# Altium footprint library Basic.PcbLib: 16 footprints
Each footprint in its own frame and in the unit in brackets; x right, y up, seen from the top. Pads: shape width x height; smd on the part's side, far side on the other; paste and mask are expansions set on the pad; w line width, h text height; cw(c..) or ccw(c..) is an arc to the next point about the centre after c.
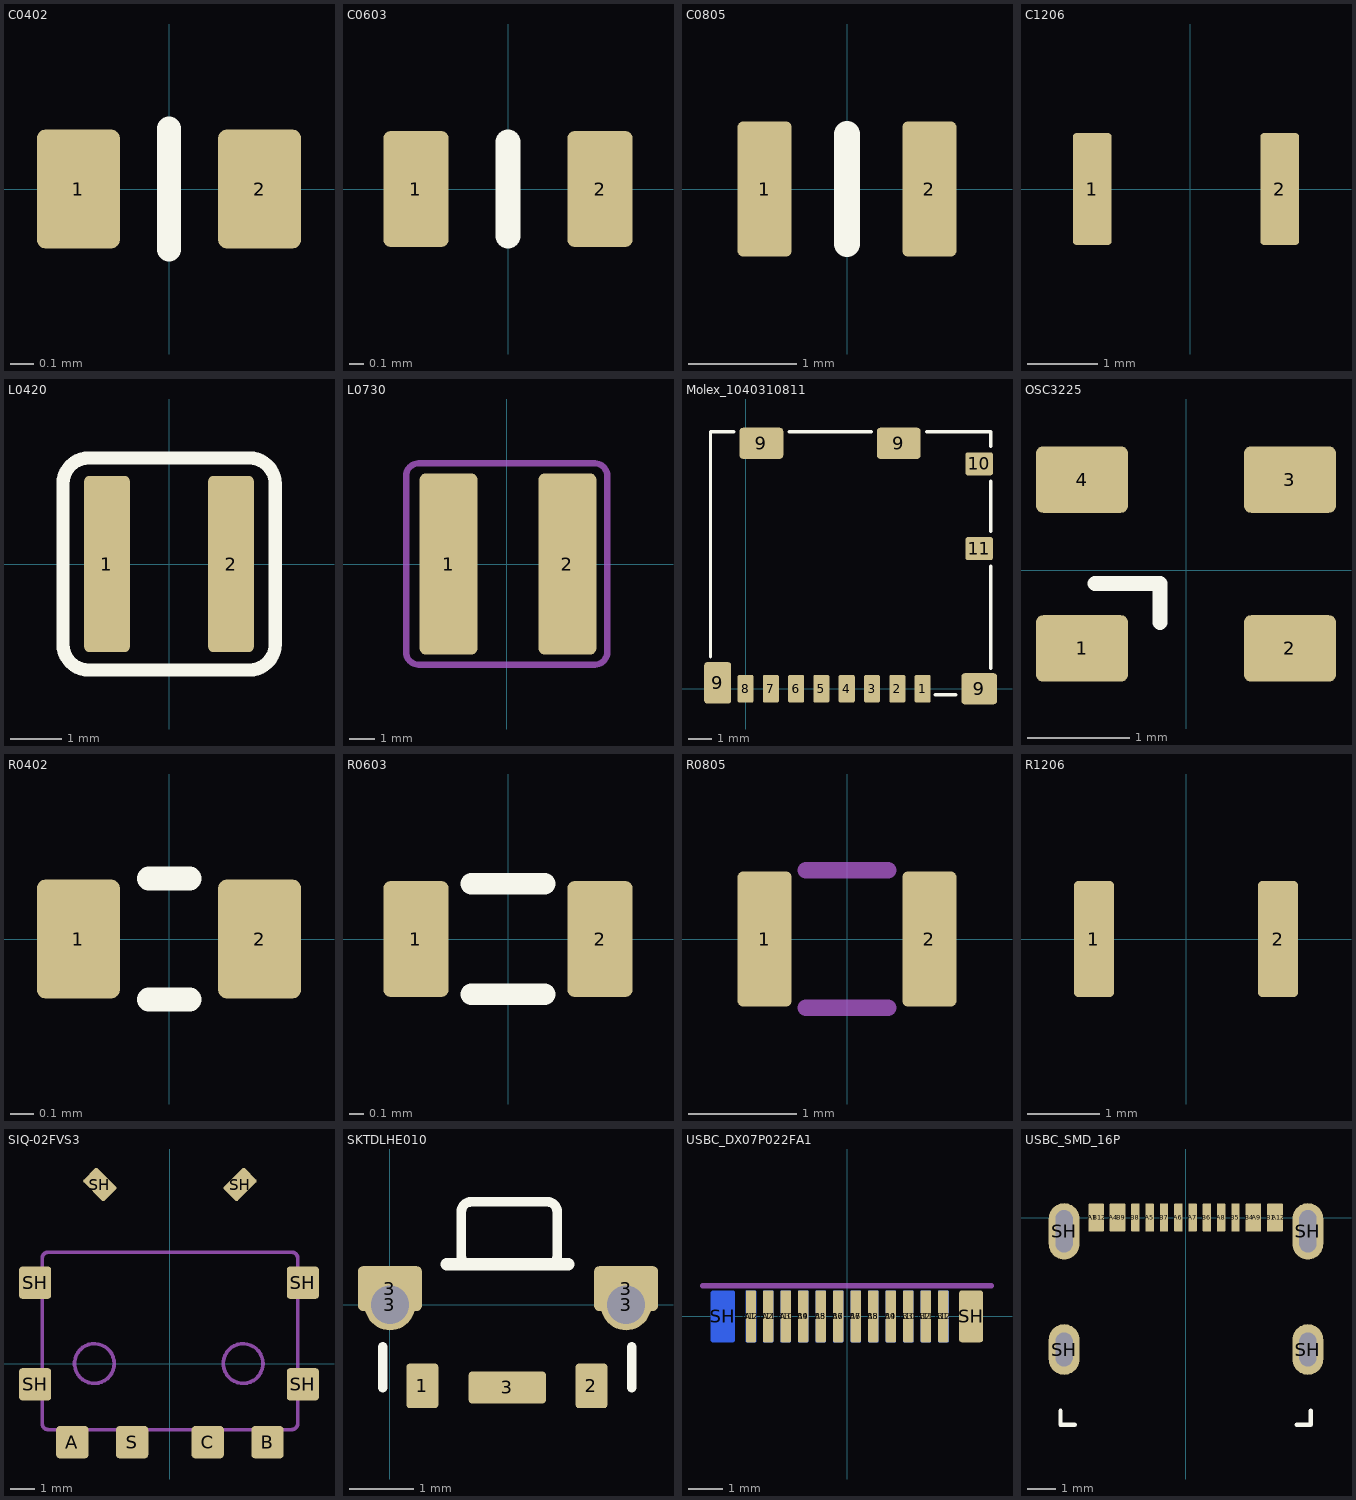
[diagram p0: the footprints below, top view; thin cyan lines are the x and y axes]

## C0402 [mm]
pads (2):
  rrect21% 0.35x0.5 smd paste-0.021 mask+0.05: 1(-0.381,0) 2(0.381,0)
Top Overlay:
  lines w0.1: 0,-0.254 0,0.254
3D body "Capacitor_0402_h20mil.STEP": height 0.52, standoff 0.01, extent -0.508,-0.254 0.508,0.254

## C0603 [mm]
pads (2):
  rrect21% 0.45x0.8 smd paste-0.021 mask+0.05: 1(-0.635,0) 2(0.635,0)
Top Overlay:
  lines w0.172: 0,-0.325 0,0.325
3D body "Capacitor_0603_h32mil.STEP": height 0.81, standoff 0.01, extent -0.8,-0.4 0.8,0.4

## C0805 [mm]
pads (2):
  rrect21% 0.5x1.25 smd paste-0.021 mask+0.05: 1(-0.762,0) 2(0.762,0)
Top Overlay:
  lines w0.245: 0,-0.508 0,0.508
3D body "Capacitor_0805_h50mil.STEP": height 1.26, standoff 0.01, extent -1,-0.625 1,0.625

## C1206 [mm]
pads (2):
  rrect21% 0.55x1.6 smd paste-0.021 mask+0.05: 1(-1.397,0) 2(1.27,0)
3D body "Capacitor_1206_h63mil.STEP": height 1.61, standoff 0.01, extent -1.666,-0.802 1.534,0.798

## L0420 [mm]
pads (2):
  rrect21% 0.88x3.4 smd: 1(-1.2,0) 2(1.196,0)
Top Overlay:
  lines w0.254: -2.05,-1.55 ccw(c-1.55,-1.55) -1.55,-2.05 1.55,-2.05 ccw(c1.55,-1.55) 2.05,-1.55 2.05,1.55 ccw(c1.55,1.55) 1.55,2.05 -1.55,2.05 ccw(c-1.55,1.55) -2.05,1.55 -2.05,-1.55
3D body "L_0420.stp": height 2, standoff -0.08, extent -2.15,-2.15 2.15,2.15

## L0730 [mm]
pads (2):
  rrect21% 2.3x7.2 smd: 1(-2.311,0) 2(2.413,0)
Mechanical 1:
  lines w0.254: -4,-3.5 ccw(c-3.5,-3.5) -3.5,-4 3.5,-4 ccw(c3.5,-3.5) 4,-3.5 4,3.5 ccw(c3.5,3.5) 3.5,4 -3.5,4 ccw(c-3.5,3.5) -4,3.5 -4,-3.5
3D body "L_0730.stp": height 2.75, standoff -0.16, extent -3.9,-3.9 3.9,3.9

## Molex_1040310811 [mm] "1.10mm Pitch microSD /  Memory Card Connector, Surface Mount, /  Push-Pull Type, 1.42mm Height, with Detect /  Switch"
pads (14):
  rrect21% 0.7x1.2 smd mask+0.05: 1(7.7,0) 2(6.6,0) 3(5.5,0) 4(4.4,0) 5(3.3,0) 6(2.2,0) 7(1.1,0) 8(0,0)
  rrect21% 1.17x1.8 smd mask+0.05: 9(-1.21,0.254)
  rrect21% 1.9x1.35 smd mask+0.05: 9(0.691,10.675) 9(6.661,10.675)
  rrect21% 1.55x1.35 smd mask+0.05: 9(10.16,0)
  rrect21% 1.2x1 smd mask+0.05: 10(10.16,9.779) 11(10.16,6.096)
Top Overlay:
  lines w0.15: -1.524,1.397 -1.524,11.176 -0.508,11.176 ; 1.905,11.176 5.461,11.176 ; 7.874,11.176 10.668,11.176 10.668,10.541 ; 8.255,-0.254 9.144,-0.254 ; 10.668,0.889 10.668,5.334 ; 10.668,6.858 10.668,9.017
3D body "Molex_1.10mm Pitch microSD.step": height 1.47, standoff 0, extent -1.403,-0.289 10.547,11.111

## OSC3225 [mm] "SMD-3225-4P"
height 1.2
pads (4):
  rrect21% 0.9x0.65 smd: 1(-1.016,-0.762) 2(1.016,-0.762) 3(1.016,0.889) 4(-1.016,0.889)
Top Overlay:
  lines w0.15: -0.889,-0.127 -0.254,-0.127 -0.254,-0.508
3D body "Crystal_Oscillator_3225.step": height 0.9, standoff 0, extent -1.6,-1.188 1.6,1.315

## R0402 [mm]
height 3
pads (2):
  rrect21% 0.35x0.5 smd paste-0.021 mask+0.05: 1(-0.381,0) 2(0.381,0)
Top Overlay:
  lines w0.1: -0.085,-0.254 0.087,-0.254 ; -0.085,0.254 0.087,0.254
3D body "RES0402.stp": height 0.3, standoff 0, extent -0.5,-0.25 0.5,0.25

## R0603 [mm]
pads (2):
  rrect21% 0.45x0.8 smd paste-0.021 mask+0.05: 1(-0.635,0) 2(0.635,0)
Top Overlay:
  lines w0.15: -0.254,-0.381 0.254,-0.381 ; -0.254,0.381 0.254,0.381
3D body "RES0603.stp": height 0.45, standoff 0, extent -0.8,-0.4 0.8,0.4

## R0805 [mm]
pads (2):
  rrect21% 0.5x1.25 smd paste-0.021 mask+0.05: 1(-0.762,0) 2(0.762,0)
Mechanical 1:
  lines w0.15: -0.381,-0.635 0.381,-0.635 ; -0.381,0.635 0.381,0.635
3D body "RES0805.stp": height 0.5, standoff 0, extent -1,-0.63 1,0.62

## R1206 [mm]
pads (2):
  rrect21% 0.55x1.6 smd paste-0.021 mask+0.05: 1(-1.27,0) 2(1.27,0)
3D body "RES1206.stp": height 0.55, standoff 0, extent -1.55,-0.772 1.55,0.78

## SIQ-02FVS3 [mm] "Encoder"
pads (10):
  rrect21% 1.3x1.3 smd: A(-3.937,-3.175) B(3.937,-3.175) C(1.524,-3.175) S(-1.524,-3.175) SH(-5.438,-0.839) SH(-5.438,3.261) SH(5.362,-0.839) SH(5.362,3.261)
  rrect21% 1.2x0.8 smd rot 135: SH(-2.829,7.22)
  rrect21% 1.2x0.8 smd rot 45: SH(2.829,7.22)
Mechanical 1:
  circle w0.15: c-3.048,0 r0.8
  circle w0.15: c2.952,0 r0.8
  lines w0.15: -5.155,-2.413 ccw(c-4.901,-2.413) -4.901,-2.667 4.901,-2.667 ccw(c4.901,-2.413) 5.155,-2.413 5.155,4.238 ccw(c4.901,4.238) 4.901,4.492 -4.901,4.492 ccw(c-4.901,4.238) -5.155,4.238 -5.155,-2.413
3D body "SIQ-02FVS3.step": height 4, standoff -0.5, extent -7.248,-2.815 7.248,11.655

## SKTDLHE010 [mm] "SW C380198"
height 1.55
pads (7):
  rrect21% 0.5x0.7 smd: 1(0.508,-1.27) 2(3.158,-1.27)
  round 0.8 hole 0.6: 3(0,0) 3(3.7,0)
  rrect21% 1x0.7 smd: 3(0,0.254) 3(3.7,0.254)
  rrect21% 1.21x0.5 smd: 3(1.84,-1.296)
Top Overlay:
  lines w0.15: -0.11,-1.296 -0.11,-0.655 ; 3.79,-1.296 3.79,-0.655 ; 1.12,0.762 ccw(c1.27,0.762) 1.27,0.612 2.47,0.612 ccw(c2.47,0.762) 2.62,0.762 2.62,1.462 ccw(c2.47,1.462) 2.47,1.612 1.27,1.612 ccw(c1.27,1.462) 1.12,1.462 1.12,0.762
  lines w0.2: 0.889,0.635 2.794,0.635
3D body "SKTDLHE010.step": height 1.5, standoff -0.5, extent -0.113,-1.539 3.787,1.511

## USBC_DX07P022FA1 [mm]
pads (26):
  rrect21% 0.3x1.5 smd paste-0.02 mask+0.05: A1(-2.786,0) A2(-2.286,0) A3(-1.778,0) A4(-1.27,0) A5(-0.762,0) A6(-0.254,0) A7(0.254,0) A8(0.762,0) A9(1.27,0) A10(1.778,0) A11(2.286,0) A12(2.794,0)
  rrect21% 0.3x1.5 smd far side paste-0.02 mask+0.05: B1(2.794,0) B2(2.286,0) B3(1.778,0) B4(1.27,0) B5(0.762,0) B6(0.254,0) B7(-0.254,0) B8(-0.762,0) B9(-1.27,0) B10(-1.778,0) B11(-2.286,0) B12(-2.786,0)
  rrect21% 0.7x1.5 smd far side paste-0.02 mask+0.05: SH(-3.6,0)
  rrect21% 0.7x1.5 smd paste-0.02 mask+0.05: SH(3.6,0)
Mechanical 1:
  lines w0.15: -4.191,0.889 4.191,0.889
3D body "USBC_M_J_24P.step": height 1.35, standoff -1.65, extent -4.264,-1.016 4.286,11.584

## USBC_SMD_16P [mm] "16P+4L"
height 3.16
pads (21):
  rrect21% 0.3x1 smd mask+0.05: A1(-3.302,0) A1(-3.302,0) A4(-2.548,0) A5(-1.278,0) A6(-0.262,0) A7(0.246,0) A8(1.262,0) A9(2.532,0) A12(3.302,0) B1(3.04,0) B4(2.278,0) B5(1.77,0) B6(0.754,0) B7(-0.77,0) B8(-1.786,0) B9(-2.294,0) B12(-3.056,0)
  rrect100% 1.1x1.8 hole 0.6 slot 1.2 at 90 deg: SH(-4.318,-4.69) SH(4.341,-4.69)
  rrect100% 1.1x2 hole 0.6 slot 1.5 at 90 deg: SH(-4.318,-0.49) SH(4.341,-0.49)
Top Overlay:
  lines w0.15: -4.445,-6.866 -4.445,-7.366 -3.945,-7.366 ; 3.945,-7.366 4.445,-7.366 4.445,-6.866
3D body "USBC_Krconn_16P.step": height 3.16, standoff -1, extent -4.47,-7.374 4.47,0.374